# Altium footprint library HF_TOP_CONNECTOR.PcbLib: 2 footprints
Each footprint in its own frame and in the unit in brackets; x right, y up, seen from the top. Pads: shape width x height; smd on the part's side, far side on the other; paste and mask are expansions set on the pad; w line width, h text height; cw(c..) or ccw(c..) is an arc to the next point about the centre after c.
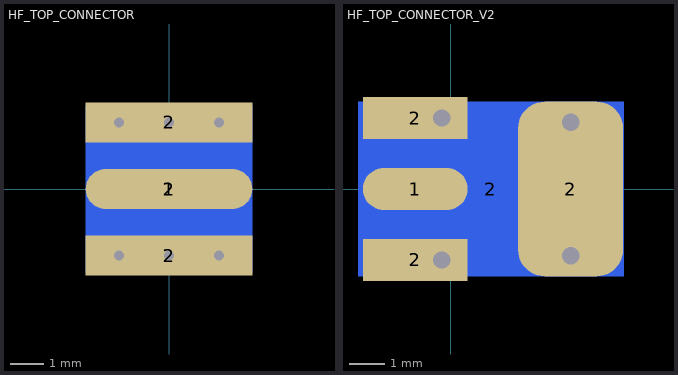
[diagram p0: the footprints below, top view; thin cyan lines are the x and y axes]

## HF_TOP_CONNECTOR [mm]
pads (4):
  oval 5x1.2 smd: 1(0,0)
  rect 5x1.2 smd: 2(0,-2) 2(0,2)
  rect 5x5 smd far side: 2(0,0)
via 0,-2 diameter 0.8 hole 0.3
via -1.5,-2 diameter 0.8 hole 0.3
via 1.5,-2 diameter 0.8 hole 0.3
via -1.5,2 diameter 0.8 hole 0.3
via 1.5,2 diameter 0.8 hole 0.3
via 0,2 diameter 0.8 hole 0.3
Top Layer:
  pour cut-out: -2.476,1.397 2.476,1.397 2.476,-1.397 -2.476,-1.397

## HF_TOP_CONNECTOR_V2 [mm]
pads (5):
  oval 3x1.2 smd: 1(-1.016,0)
  rect 3x1.2 smd: 2(-1.016,-2.032) 2(-1.016,2.032)
  rect 7.6x5 smd far side: 2(1.143,0)
  rrect50% 3x5 smd: 2(3.429,0)
via -0.254,-2.032 diameter 1.1 hole 0.5
via -0.254,2.032 diameter 1.1 hole 0.5
via 3.429,1.905 diameter 1.1 hole 0.5
via 3.429,-1.905 diameter 1.1 hole 0.5
Top Layer:
  pour cut-out: -2.54,1.397 -2.54,-1.397 0.381,-1.409 0.746,-1.361 1.086,-1.22 1.377,-0.996 1.601,-0.705 1.742,-0.365 1.79,0 1.742,0.365 1.601,0.705 1.377,0.996 1.086,1.22 0.746,1.361 0.381,1.409 0.381,1.397